# Altium footprint library Liquid Tremolo.PcbLib: 19 footprints (part 1 of 2)
Each footprint in its own frame and in the unit in brackets; x right, y up, seen from the top. Pads: shape width x height; smd on the part's side, far side on the other; paste and mask are expansions set on the pad; w line width, h text height; cw(c..) or ccw(c..) is an arc to the next point about the centre after c.
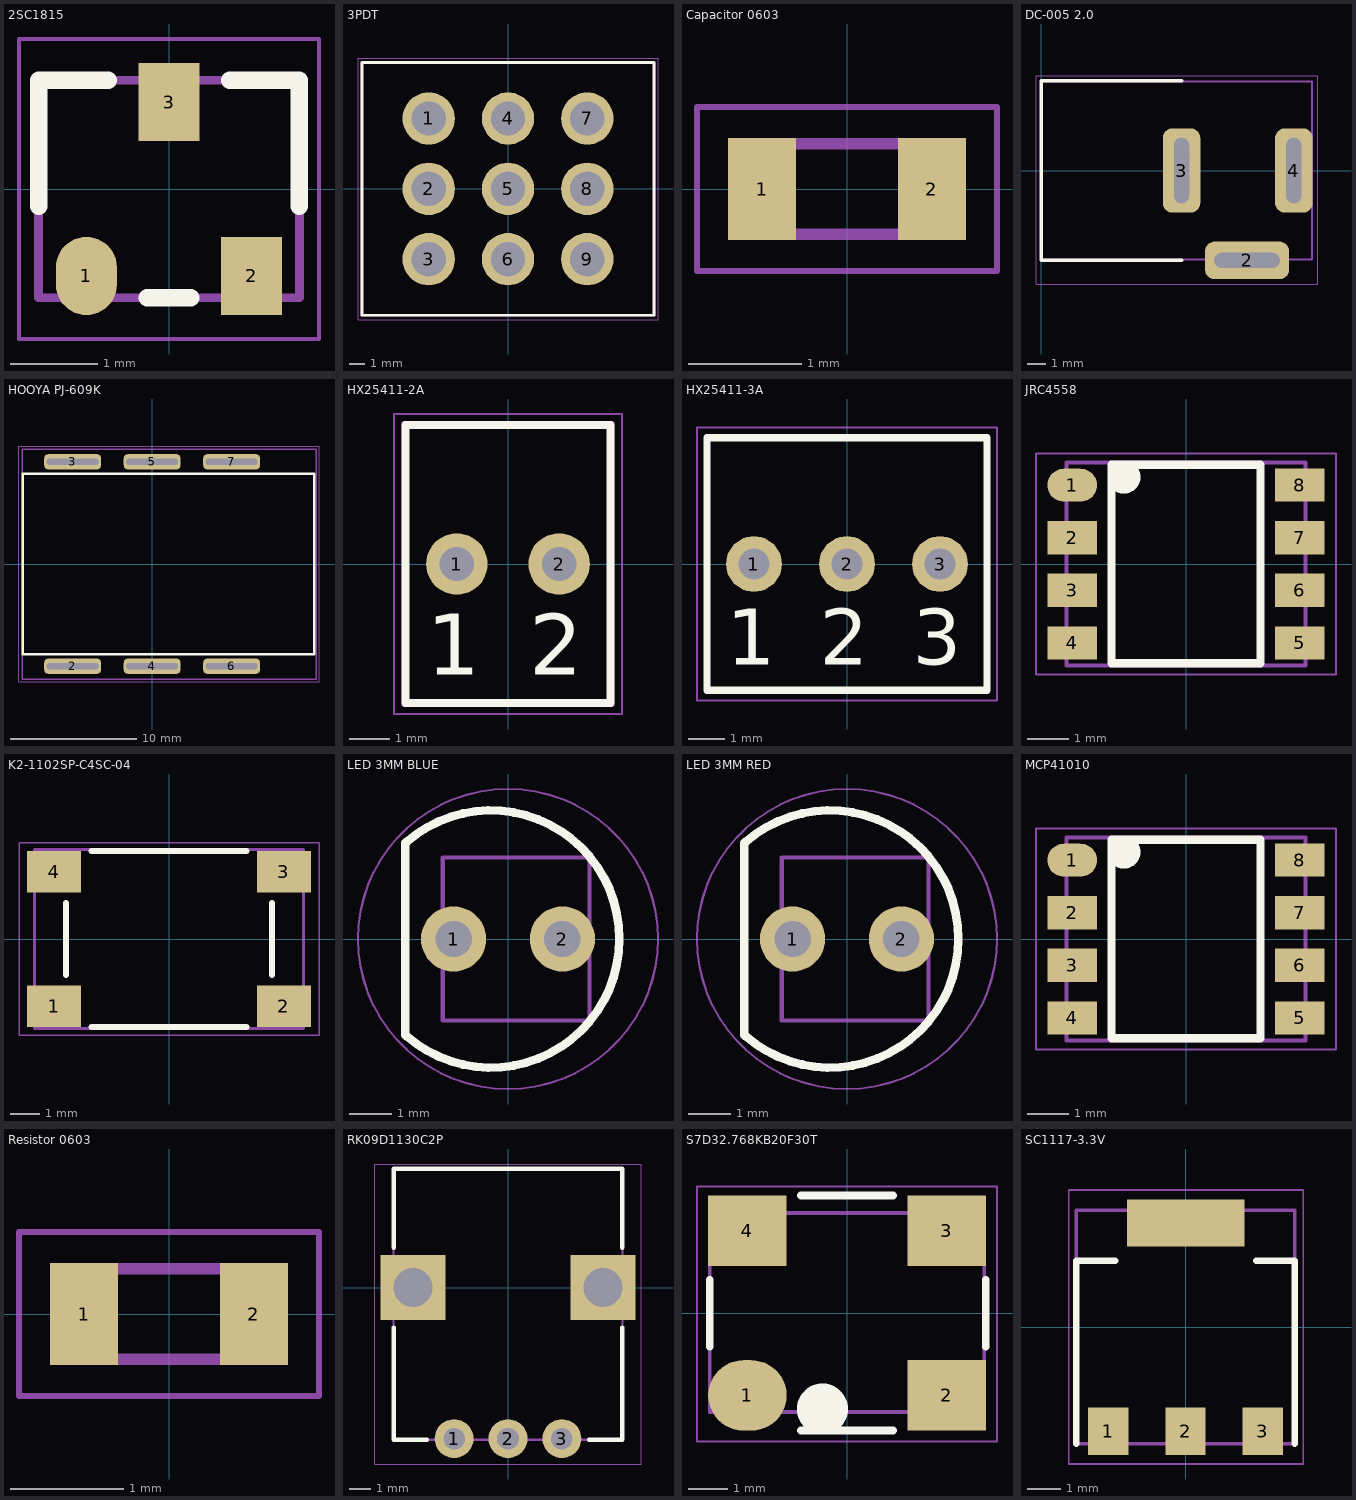
[diagram p0: the footprints below, top view; thin cyan lines are the x and y axes]

## 2SC1815 [mm]
pads (3):
  oval 0.7x0.9 smd: 1(-0.95,-1)
  rect 0.7x0.9 smd: 2(0.95,-1) 3(0,1)
Top Overlay:
  lines w0.2: -1.5,-0.2 -1.5,1.25 -0.7,1.25 ; -0.25,-1.25 0.25,-1.25 ; 0.7,1.25 1.5,1.25 1.5,-0.2
Outline:
  lines w0.1: -1.5,-1.25 1.5,-1.25 1.5,1.25 -1.5,1.25 -1.5,-1.25
  text "'.Designator'" at -1.2,0.3 h0.6
Keep Off:
  lines w0.05: -1.725,-1.725 1.725,-1.725 1.725,1.725 -1.725,1.725 -1.725,-1.725
3D body "CircuitWorks-SOT-23.step": height 1.1, standoff 0, extent -1.5,-1.25 1.5,1.25

## 3PDT [mm]
pads (9):
  round 3.5 hole 2.3: 1(-5.3,4.7) 2(-5.3,0) 3(-5.3,-4.7) 4(0,4.7) 5(0,0) 6(0,-4.7) 7(5.3,4.7) 8(5.3,0) 9(5.3,-4.7)
Top Overlay:
  lines w0.2: -9.75,-8.45 -9.75,8.45 9.75,8.45 9.75,-8.45 -9.75,-8.45
Outline:
  lines w0.1: -9.8,-8.5 -9.8,8.5 9.8,8.5 9.8,-8.5 -9.8,-8.5
  text "'.Designator'" at -4.25,0.65 h1.8
Keep Off:
  lines w0.05: -10.025,-8.75 10.025,-8.75 10.025,8.725 -10.025,8.725 -10.025,-8.75
3D body "User Library-Footswich_3PDT.step": height 39.5, standoff -1.7, extent -9.8,-8.5 9.8,8.5

## Capacitor 0603 [mm]
pads (2):
  rect 0.6x0.9 smd: 1(-0.75,0) 2(0.75,0)
Outline:
  lines w0.1: -0.8,-0.4 -0.8,0.4 0.8,0.4 0.8,-0.4 -0.8,-0.4
  text "'.Designator'" at -0.701,-0.102 h0.3
Keep Off:
  lines w0.05: -1.325,-0.725 1.325,-0.725 1.325,0.725 -1.325,0.725 -1.325,-0.725
3D body "User Library-SMD CAPACITOR.step": height 0.8, standoff 0, extent -0.8,-0.4 0.8,0.4

## DC-005 2.0 [mm]
pads (3):
  rrect50% 4.5x2 hole 0.8 slot 3.5 at 0 deg: 2(11,-4.8)
  rrect50% 2x4.5 hole 0.8 slot 3.5 at 90 deg: 3(7.5,0) 4(13.5,0)
Top Overlay:
  lines w0.2: 7.5,-4.8 0,-4.8 0,0 0,4.8 7.5,4.8
Outline:
  lines w0.1: 0,-4.75 0,4.75 14.475,4.75 14.475,-4.75 0,-4.75
  text "'.Designator'" at 2.175,-0.55 h1.2
Keep Off:
  lines w0.05: -0.275,-6.075 14.775,-6.075 14.775,5.075 -0.275,5.075 -0.275,-6.075
3D body "User Library-kycon kld-0202-a.step": height 11.18, standoff -3.6, extent 0,-4.736 14.478,4.736

## HOOYA PJ-609K [mm]
pads (6):
  rrect50% 4.5x1.2 hole 0.5 slot 4.1 at 0 deg: 2(-6.3,-8.1) 3(-6.3,8.1) 4(0,-8.1) 5(0,8.1) 6(6.3,-8.1) 7(6.3,8.1)
Top Overlay:
  lines w0.2: -10.25,-7.15 12.85,-7.15 12.85,7.15 -10.25,7.15 -10.25,-7.15
Outline:
  lines w0.1: -10.3,-9.125 -10.3,9.1 13,9.1 13,-9.125 -10.3,-9.125
  text "'.Designator'" at -8.225,-0.6 h1.8
Keep Off:
  lines w0.05: -10.55,-9.35 -10.55,9.325 13.225,9.325 13.225,-9.35 -10.55,-9.35
3D body "User Library-Audio Jack Neutrik Amphenol 6_35.STEP": height 17.8, standoff -2.14, extent -18.794,-9.1 13,9.1

## HX25411-2A [mil]
pads (2):
  round 60 hole 33.46: 1(-50,0) 2(50,0)
Top Overlay:
  lines w7.87: -100.39,-135.83 100.39,-135.83 100.39,135.83 -100.39,135.83 -100.39,-135.83
  text "2" at 20.63,-108.11 h60
  text "1" at -79.37,-108.11 h60
Outline:
  lines w3.94: -101.97,-137.8 101.97,-137.8 101.97,137.8 -101.97,137.8 -101.97,-137.8
  text "'.Designator'" at 15.75,-110.24 h47.24
Keep Off:
  lines w1.97: -111.22,-146.65 -111.22,146.65 111.22,146.65 111.22,-146.65 -111.22,-146.65
3D body "User Library-Molex - 2-Pin Header with Lock (0_100in pitch).STEP": height 452.55, standoff -107.29, extent -100,-124.99 100,125.01

## HX25411-3A [mil]
pads (3):
  round 60 hole 33.46: 1(-100,0) 2(0,0) 3(100,0)
Top Overlay:
  lines w7.87: -150.39,-135.83 150.39,-135.83 150.39,135.83 -150.39,135.83 -150.39,-135.83
  text "3" at 70.63,-108.11 h60
  text "2" at -29.37,-108.11 h60
  text "1" at -129.37,-108.11 h60
Outline:
  lines w3.94: -151.97,-137.8 151.97,-137.8 151.97,137.8 -151.97,137.8 -151.97,-137.8
  text "'.Designator'" at 15.75,-110.24 h47.24
Keep Off:
  lines w1.97: -161.22,-146.65 -161.22,146.65 161.22,146.65 161.22,-146.65 -161.22,-146.65
3D body "User Library-Molex - 3-Pin Header with Lock (0_100in pitch).STEP": height 452.55, standoff -107.29, extent -150,-125 150,125

## JRC4558 [mm]
pads (8):
  oval 1.2x0.8 smd: 1(-2.75,1.905)
  rect 1.2x0.8 smd: 2(-2.75,0.635) 3(-2.75,-0.635) 4(-2.75,-1.905) 5(2.75,-1.905) 6(2.75,-0.635) 7(2.75,0.635) 8(2.75,1.905)
Top Overlay:
  circle w0.5: c-1.5,2.1 r0.15
  lines w0.2: -1.8,-2.4 -1.8,2.4 1.8,2.4 1.8,-2.4 -1.8,-2.4
Outline:
  lines w0.1: -2.889,-2.452 2.889,-2.452 2.889,2.451 -2.889,2.451 -2.889,-2.452
  text "'.Designator'" at -2.7,-0.3 h1.2
Keep Off:
  lines w0.05: -3.625,-2.675 3.625,-2.675 3.625,2.675 -3.625,2.675 -3.625,-2.675
3D body "CircuitWorks-SO-8.step": height 1.45, standoff 0, extent -2.889,-2.451 2.889,2.451

## K2-1102SP-C4SC-04 [mm]
pads (4):
  rect 1.8x1.4 smd: 1(-3.85,-2.25) 2(3.85,-2.25) 3(3.85,2.25) 4(-3.85,2.25)
Top Overlay:
  lines w0.2: -3.45,-1.2 -3.45,0 -3.45,1.2 ; -2.6,-2.95 0,-2.95 2.6,-2.95 ; -2.6,2.95 0,2.95 2.6,2.95 ; 3.45,-1.2 3.45,0 3.45,1.2
Outline:
  lines w0.1: -4.5,-3 4.5,-3 4.5,3 -4.5,3 -4.5,-3
  text "'.Designator'" at -2.7,-0.3 h1.2
Keep Off:
  lines w0.05: -5.025,-3.225 -5.025,3.225 5.025,3.225 5.025,-3.225 -5.025,-3.225
3D body "User Library-PTS645SL50SMTR92-LFS.STEP": height 5, standoff 0, extent -4.5,-3 4.5,3

## LED 3MM BLUE [mil]
pads (2):
  round 60 hole 33.46: 1(-50,0) 2(50,0)
Top Overlay:
  lines w7.87: -94.49,-88.58 -94.49,0 -94.49,88.58 ; -93.24,-89.14 ccw(c-15.75,0) -93.24,89.14
Outline:
  lines w3.94: -60.04,-74.8 74.8,-74.8 74.8,74.8 -60.04,74.8 -60.04,-74.8
  text "'.Designator'" at -39.37,-9.85 h35.43
Keep Off:
  circle w1.97: c0,0 r137.8
3D body "everlight-3MM-LED-BLUE.step": height 379.39, standoff -115.4, extent -60.07,-74.8 74.8,74.8

## LED 3MM RED [mil]
pads (2):
  round 60 hole 33.46: 1(-50,0) 2(50,0)
Top Overlay:
  lines w7.87: -94.49,-88.58 -94.49,0 -94.49,88.58 ; -93.24,-89.14 ccw(c-15.75,0) -93.24,89.14
Outline:
  lines w3.94: -60.04,-74.8 -60.04,74.8 74.8,74.8 74.8,-74.8 -60.04,-74.8
  text "'.Designator'" at -39.37,-9.85 h35.43
Keep Off:
  circle w1.97: c0,0 r137.8
3D body "everlight-3MM-LED-RED.step": height 379.39, standoff -115.4, extent -60.07,-74.8 74.8,74.8

## MCP41010 [mm]
pads (8):
  oval 1.2x0.8 smd: 1(-2.75,1.905)
  rect 1.2x0.8 smd: 2(-2.75,0.635) 3(-2.75,-0.635) 4(-2.75,-1.905) 5(2.75,-1.905) 6(2.75,-0.635) 7(2.75,0.635) 8(2.75,1.905)
Top Overlay:
  circle w0.5: c-1.5,2.1 r0.15
  lines w0.2: -1.8,-2.4 1.8,-2.4 1.8,2.4 -1.8,2.4 -1.8,-2.4
Outline:
  lines w0.1: -2.889,-2.452 -2.889,2.451 2.889,2.451 2.889,-2.452 -2.889,-2.452
  text "'.Designator'" at -2.7,-0.3 h1.2
Keep Off:
  lines w0.05: -3.625,-2.675 -3.625,2.675 3.625,2.675 3.625,-2.675 -3.625,-2.675
3D body "CircuitWorks-SO-8.step": height 1.45, standoff 0, extent -2.889,-2.451 2.889,2.451

## Resistor 0603 [mm]
pads (2):
  rect 0.6x0.9 smd: 1(-0.75,0) 2(0.75,0)
Outline:
  lines w0.1: -0.8,-0.4 0.8,-0.4 0.8,0.4 -0.8,0.4 -0.8,-0.4
  text "'.Designator'" at -0.701,-0.102 h0.3
Keep Off:
  lines w0.05: -1.325,-0.725 -1.325,0.725 1.325,0.725 1.325,-0.725 -1.325,-0.725
3D body "User Library-SMD RESISTOR-1.step": height 0.45, standoff -0.01, extent -0.8,-0.4 0.8,0.4

## RK09D1130C2P [mm]
pads (5):
  round 1.8 hole 1: 1(-2.5,-7) 2(0,-7) 3(2.5,-7)
  rect 3x3 hole 1.8 square: ""(-4.4,0) ""(4.4,0)
Top Overlay:
  lines w0.2: -5.3,-1.85 -5.3,-7.05 -3.75,-7.05 ; -5.3,1.85 -5.3,5.5 5.3,5.5 5.3,1.85 ; 3.75,-7.05 5.3,-7.05 5.3,-1.85
Outline:
  lines w0.1: -5.3,-7.05 5.3,-7.05 5.3,5.5 -5.3,5.5 -5.3,-7.05
  text "'.Designator'" at -4.25,0.65 h1.8
Keep Off:
  lines w0.05: -6.175,-8.175 -6.175,5.725 6.175,5.725 6.175,-8.175 -6.175,-8.175
3D body "RK09D1130C2P C361173 ALPS Rotary Pot.SLDPRT": height 26.8, standoff -3.8, extent -5.3,-7.05 5.3,5.5

## S7D32.768KB20F30T [mm]
pads (4):
  oval 2x1.8 smd: 1(-2.54,-2.1)
  rect 2x1.8 smd: 2(2.54,-2.1) 3(2.54,2.1) 4(-2.54,2.1)
Top Overlay:
  circle w1: c-0.625,-2.45 r0.15
  lines w0.2: -3.5,-0.85 -3.5,0 -3.5,0.85 ; -1.175,-3 0,-3 1.175,-3 ; -1.175,3 0,3 1.175,3 ; 3.54,-0.86 3.54,-0.01 3.54,0.84
Outline:
  lines w0.1: -3.5,-2.525 -3.5,2.55 3.5,2.55 3.5,-2.525 -3.5,-2.525
  text "'.Designator'" at -2.7,-0.3 h1.2
Keep Off:
  lines w0.05: -3.825,-3.275 3.825,-3.275 3.825,3.225 -3.825,3.225 -3.825,-3.275
3D body "User Library-ASV-Oscil.STEP": height 1.8, standoff 0, extent -3.5,-2.54 3.5,2.54

## SC1117-3.3V [mm]
pads (4):
  rect 1.2x1.4 smd: 1(-2.3,-3.1) 2(0,-3.1) 3(2.3,-3.1)
  rect 3.5x1.4 smd: ""(0,3.1)
Top Overlay:
  lines w0.2: -3.25,-3.475 -3.25,1.975 -2.1,1.975 ; 2.1,1.975 3.25,1.975 3.25,-3.475
Outline:
  lines w0.1: -3.25,-3.475 -3.25,3.475 3.25,3.475 3.25,-3.475 -3.25,-3.475
  text "'.Designator'" at -3.4,0.825 h0.6
Keep Off:
  lines w0.05: -3.475,-4.075 -3.475,4.075 3.5,4.075 3.5,-4.075 -3.475,-4.075
3D body "CircuitWorks-SOT-223.step": height 1.7, standoff 0.02, extent -3.25,-3.48 3.25,3.48